# EAGLE library part AP1212 (library equinox)
Datasheet: http://www.farnell.com/datasheets/608767.pdf Can be replaced with newer AP2156SG-13 RS:http://uk.rs-online.com/web/p/products/7512963P/?cm_mmc=aff-_-uk-_-octopart-_-7512963P
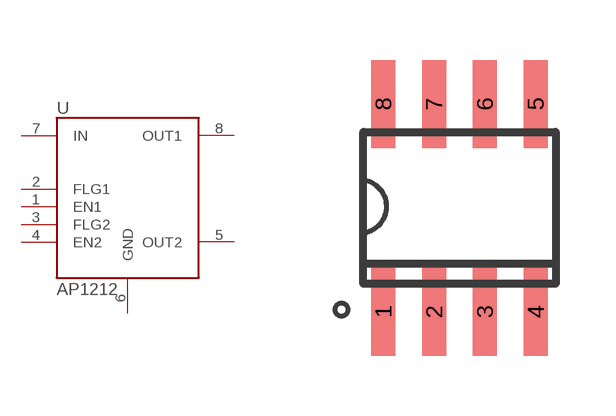
[diagram p9: symbol with the pads of SO8; footprint SO8]

Designator prefix -

## AP1212  [SO8]
1  EN1
2  FLG1
3  FLG2
4  EN2
5  OUT2
6  GND  pwr
7  IN
8  OUT1

## Footprint SO8 (pad centres in mm)
SMALL OUTLINE INTEGRATED CIRCUIT SOP-8L Source: http://www.diodes.com/datasheets/ds31262.pdf
smd 0.6 x 2.2: 1 -1.905,-2.6; 2 -0.635,-2.6; 3 0.635,-2.6; 4 1.905,-2.6; 5 1.905,2.6; 6 0.635,2.6; 7 -0.635,2.6; 8 -1.905,2.6